# Altium footprint library CRYSTAL HC49_US.PcbLib: 2 footprints
Each footprint in its own frame and in the unit in brackets; x right, y up, seen from the top. Pads: shape width x height; smd on the part's side, far side on the other; paste and mask are expansions set on the pad; w line width, h text height; cw(c..) or ccw(c..) is an arc to the next point about the centre after c.
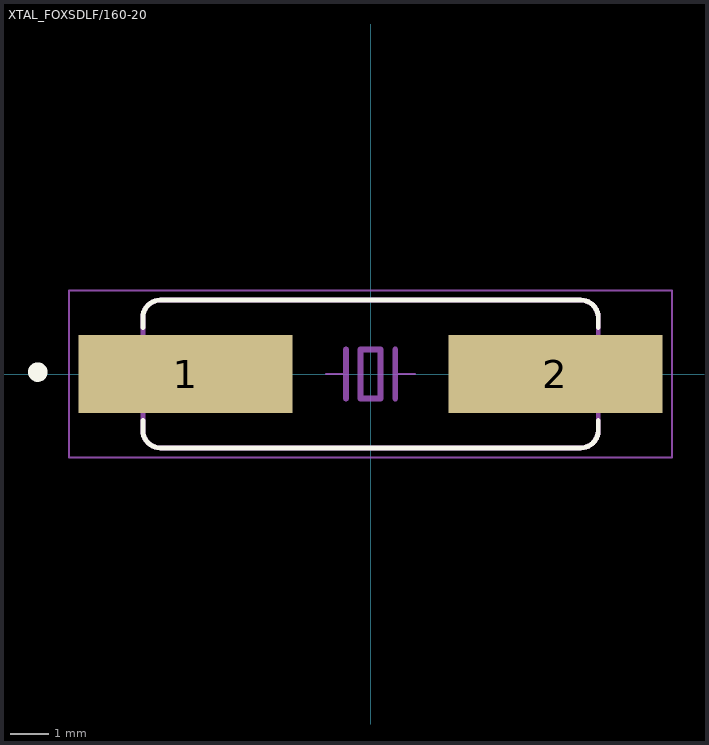
[diagram p0: the footprints below, top view; thin cyan lines are the x and y axes]

## PCBComponent_1 [mm]

## XTAL_FOXSDLF/160-20 [mm]
pads (2):
  rect 5.5x2 smd: 1(-4.75,0) 2(4.75,0)
Top Overlay:
  circle w0.4: c-8.55,0.05 r0.05
  lines w0.127: -5.85,-1.2 -5.85,-1.45 ccw(c-5.4,-1.45) -5.4,-1.9 5.4,-1.9 ccw(c5.4,-1.45) 5.85,-1.45 5.85,-1.2 ; -5.85,1.2 -5.85,1.45 cw(c-5.4,1.45) -5.4,1.9 5.4,1.9 cw(c5.4,1.45) 5.85,1.45 5.85,1.2
Mechanical 4:
  lines w0.051: -1.143,0 -0.635,0 -1.143,0 ; 0.635,0 1.143,0 0.635,0
  lines w0.127: -5.85,-1.45 ccw(c-5.4,-1.45) -5.4,-1.9 ; -5.85,-1.45 ccw(c-5.4,-1.45) -5.4,-1.9 ; -5.85,-1.45 -5.85,1.45 ; -5.85,-1.45 -5.85,1.45 ; -5.85,1.45 cw(c-5.4,1.45) -5.4,1.9 ; -5.85,1.45 cw(c-5.4,1.45) -5.4,1.9 ; -5.4,-1.9 5.4,-1.9 ; -5.4,-1.9 5.4,-1.9 ; -5.4,1.9 5.4,1.9 ; -5.4,1.9 5.4,1.9 ; 5.4,-1.9 ccw(c5.4,-1.45) 5.85,-1.45 ; 5.4,-1.9 ccw(c5.4,-1.45) 5.85,-1.45 ; 5.4,1.9 cw(c5.4,1.45) 5.85,1.45 ; 5.4,1.9 cw(c5.4,1.45) 5.85,1.45 ; 5.85,-1.45 5.85,1.45 ; 5.85,-1.45 5.85,1.45
  lines w0.152: -0.635,0 -0.635,-0.635 -0.635,0 ; -0.635,0 -0.635,0.635 -0.635,0 ; -0.254,-0.635 0.254,-0.635 ; -0.254,-0.635 -0.254,0.635 ; -0.254,-0.635 0.254,-0.635 ; -0.254,-0.635 -0.254,0.635 ; -0.254,0.635 0.254,0.635 ; -0.254,0.635 0.254,0.635 ; 0.254,-0.635 0.254,0.635 ; 0.254,-0.635 0.254,0.635 ; 0.635,0 0.635,-0.635 0.635,0 ; 0.635,0 0.635,0.635 0.635,0
Mechanical 16:
  lines w0.05: -7.75,-2.15 -7.75,2.15 7.75,2.15 7.75,-2.15 -7.75,-2.15